# EAGLE library part 557785-2 (library 000001)
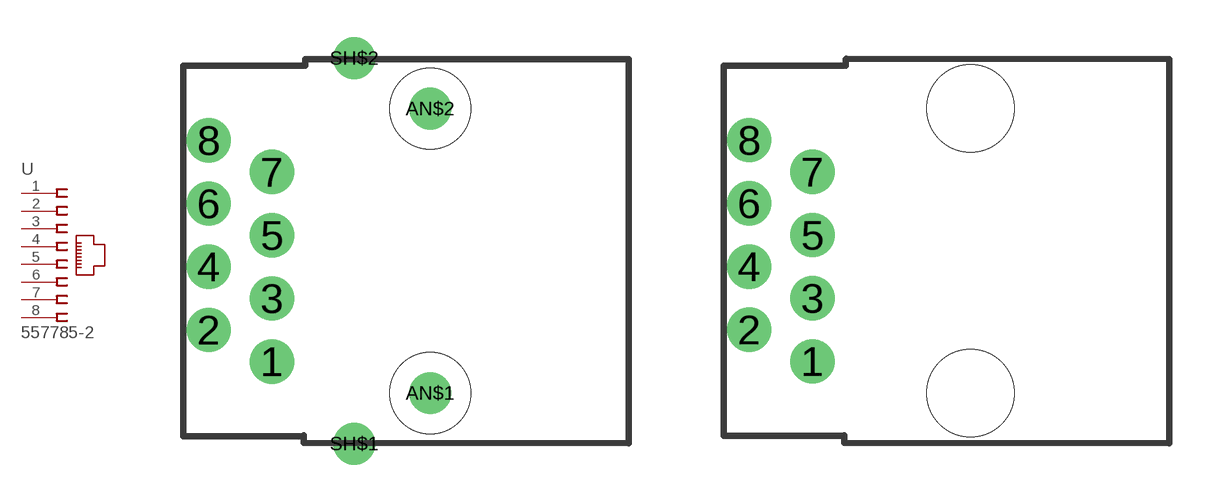
[diagram p61: symbol with the pads of 557785-2; footprints 557785-2, 557785-2_PCB]

Designator prefix -

## 557785-2  [557785-2]
1  RD+  pas
2  RD-  pas
3  RCT  pas
4  TCT  pas
5  TD+  pas
6  TD-  pas
7  SHD  pas
8  8  pas

## 557785-2K  [557785-2_PCB]
Pads as for 557785-2

## 557785-2V  [SS-6588-NF]
Pads as for 557785-2

## Footprint 557785-2 (pad centres in mm)
drill 0.5 pad 1.778 round: 1 -6.35,-4.445; 2 -8.89,-3.175; 3 -6.35,-1.905; 4 -8.89,-0.635; 5 -6.35,0.635; 6 -8.89,1.905; 7 -6.35,3.175; 8 -8.89,4.445
drill 0.8 pad 1.676 round: AN$1 0,-5.715; AN$2 0,5.715
drill 0.5 pad 1.676 round: SH$1 -3.048,-7.747; SH$2 -3.048,7.747
hole 3.251 at 0,-5.715
hole 3.251 at 0,5.715

## Footprint 557785-2_PCB (pad centres in mm)
drill 0.75 pad 1.778 round: 1 -6.35,-4.445; 2 -8.89,-3.175; 3 -6.35,-1.905; 4 -8.89,-0.635; 5 -6.35,0.635; 6 -8.89,1.905; 7 -6.35,3.175; 8 -8.89,4.445
hole 3.5 at 0,-5.715
hole 3.5 at 0,5.715

## Footprint SS-6588-NF (pad centres in mm)
drill 0.5 pad 1.778 round: 1 -4.445,6.35; 2 -3.175,8.89; 3 -1.905,6.35; 4 -0.635,8.89; 5 0.635,6.35; 6 1.905,8.89; 7 3.175,6.35; 8 4.445,8.89
drill 0.8 pad 3 round: AN$1 -5.715,0; AN$2 5.715,0
hole 3.251 at -5.715,0
hole 3.251 at 5.715,0